# EAGLE library part SWD-HEADER (library Lynx components)
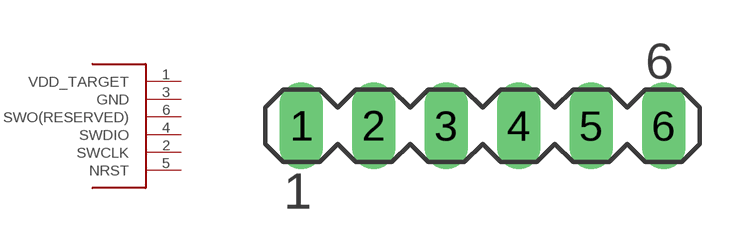
[diagram p1: symbol with the pads of 6PIN-HEADER; footprint 6PIN-HEADER]

Designator prefix -

## SWD-HEADER  [6PIN-HEADER]
1  VDD_TARGET
2  SWCLK
3  GND
4  SWDIO
5  NRST
6  SWO(RESERVED)

## Footprint 6PIN-HEADER (pad centres in mm)
drill 1.016 long: 1 -6.35,0; 2 -3.81,0; 3 -1.27,0; 4 1.27,0; 5 3.81,0; 6 6.35,0